# EAGLE library part TX25-60P-6ST-H1E (library con-jae)
CONN PLUG 1.27MM 60POS GOLD PCB
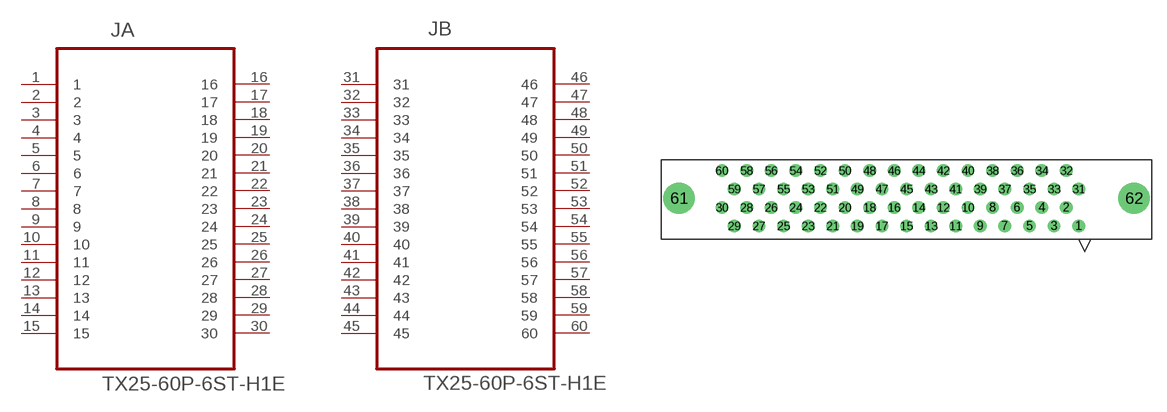
[diagram p1: symbol with the pads of JAE_TX25-60P-6ST-H1E; footprint JAE_TX25-60P-6ST-H1E]

Designator prefix J; gates A=TX25-60P-6ST-H1E_A B=TX25-60P-6ST-H1E_B

## TX25-60P-6ST-H1E (DATASHEETLINK: http://www.jae.com/z-en/pdf_download_exec.cfm?param=SJ038272.pdf; DESCRIPTION: CONN-60POS; MPN: TX25-60P-6ST-H1E; OC_FARNELL: 1519629; OC_NEWARK: 74M4893; ROHS: Yes; SUPPLIER: JAE)  [JAE_TX25-60P-6ST-H1E]
1  A:1  pas
2  A:2  pas
3  A:3  pas
4  A:4  pas
5  A:5  pas
6  A:6  pas
7  A:7  pas
8  A:8  pas
9  A:9  pas
10  A:10  pas
11  A:11  pas
12  A:12  pas
13  A:13  pas
14  A:14  pas
15  A:15  pas
16  A:16  pas
17  A:17  pas
18  A:18  pas
19  A:19  pas
20  A:20  pas
21  A:21  pas
22  A:22  pas
23  A:23  pas
24  A:24  pas
25  A:25  pas
26  A:26  pas
27  A:27  pas
28  A:28  pas
29  A:29  pas
30  A:30  pas
31  B:31  pas
32  B:32  pas
33  B:33  pas
34  B:34  pas
35  B:35  pas
36  B:36  pas
37  B:37  pas
38  B:38  pas
39  B:39  pas
40  B:40  pas
41  B:41  pas
42  B:42  pas
43  B:43  pas
44  B:44  pas
45  B:45  pas
46  B:46  pas
47  B:47  pas
48  B:48  pas
49  B:49  pas
50  B:50  pas
51  B:51  pas
52  B:52  pas
53  B:53  pas
54  B:54  pas
55  B:55  pas
56  B:56  pas
57  B:57  pas
58  B:58  pas
59  B:59  pas
60  B:60  pas

## Footprint JAE_TX25-60P-6ST-H1E (pad centres in mm)
drill 0.813: 1 17.78,-6.858; 2 16.51,-4.953; 3 15.24,-6.858; 4 13.97,-4.953; 5 12.7,-6.858; 6 11.43,-4.953; 7 10.16,-6.858; 8 8.89,-4.953; 9 7.62,-6.858; 10 6.35,-4.953; 11 5.08,-6.858; 12 3.81,-4.953; 13 2.54,-6.858; 14 1.27,-4.953; 15 0,-6.858; 16 -1.27,-4.953; 17 -2.54,-6.858; 18 -3.81,-4.953; 19 -5.08,-6.858; 20 -6.35,-4.953; 21 -7.62,-6.858; 22 -8.89,-4.953; 23 -10.16,-6.858; 24 -11.43,-4.953; 25 -12.7,-6.858; 26 -13.97,-4.953; 27 -15.24,-6.858; 28 -16.51,-4.953; 29 -17.78,-6.858; 30 -19.05,-4.953; 31 17.78,-3.048; 32 16.51,-1.143; 33 15.24,-3.048; 34 13.97,-1.143; 35 12.7,-3.048; 36 11.43,-1.143; 37 10.16,-3.048; 38 8.89,-1.143; 39 7.62,-3.048; 40 6.35,-1.143; 41 5.08,-3.048; 42 3.81,-1.143; 43 2.54,-3.048; 44 1.27,-1.143; 45 0,-3.048; 46 -1.27,-1.143; 47 -2.54,-3.048; 48 -3.81,-1.143; 49 -5.08,-3.048; 50 -6.35,-1.143; 51 -7.62,-3.048; 52 -8.89,-1.143; 53 -10.16,-3.048; 54 -11.43,-1.143; 55 -12.7,-3.048; 56 -13.97,-1.143; 57 -15.24,-3.048; 58 -16.51,-1.143; 59 -17.78,-3.048; 60 -19.05,-1.143
drill 2.21: 61 -23.495,-3.988; 62 23.495,-3.988